# Altium footprint library UWRT_Footprint_Library_2020.PcbLib: 80 footprints (part 1 of 5)
Each footprint in its own frame and in the unit in brackets; x right, y up, seen from the top. Pads: shape width x height; smd on the part's side, far side on the other; paste and mask are expansions set on the pad; w line width, h text height; cw(c..) or ccw(c..) is an arc to the next point about the centre after c.
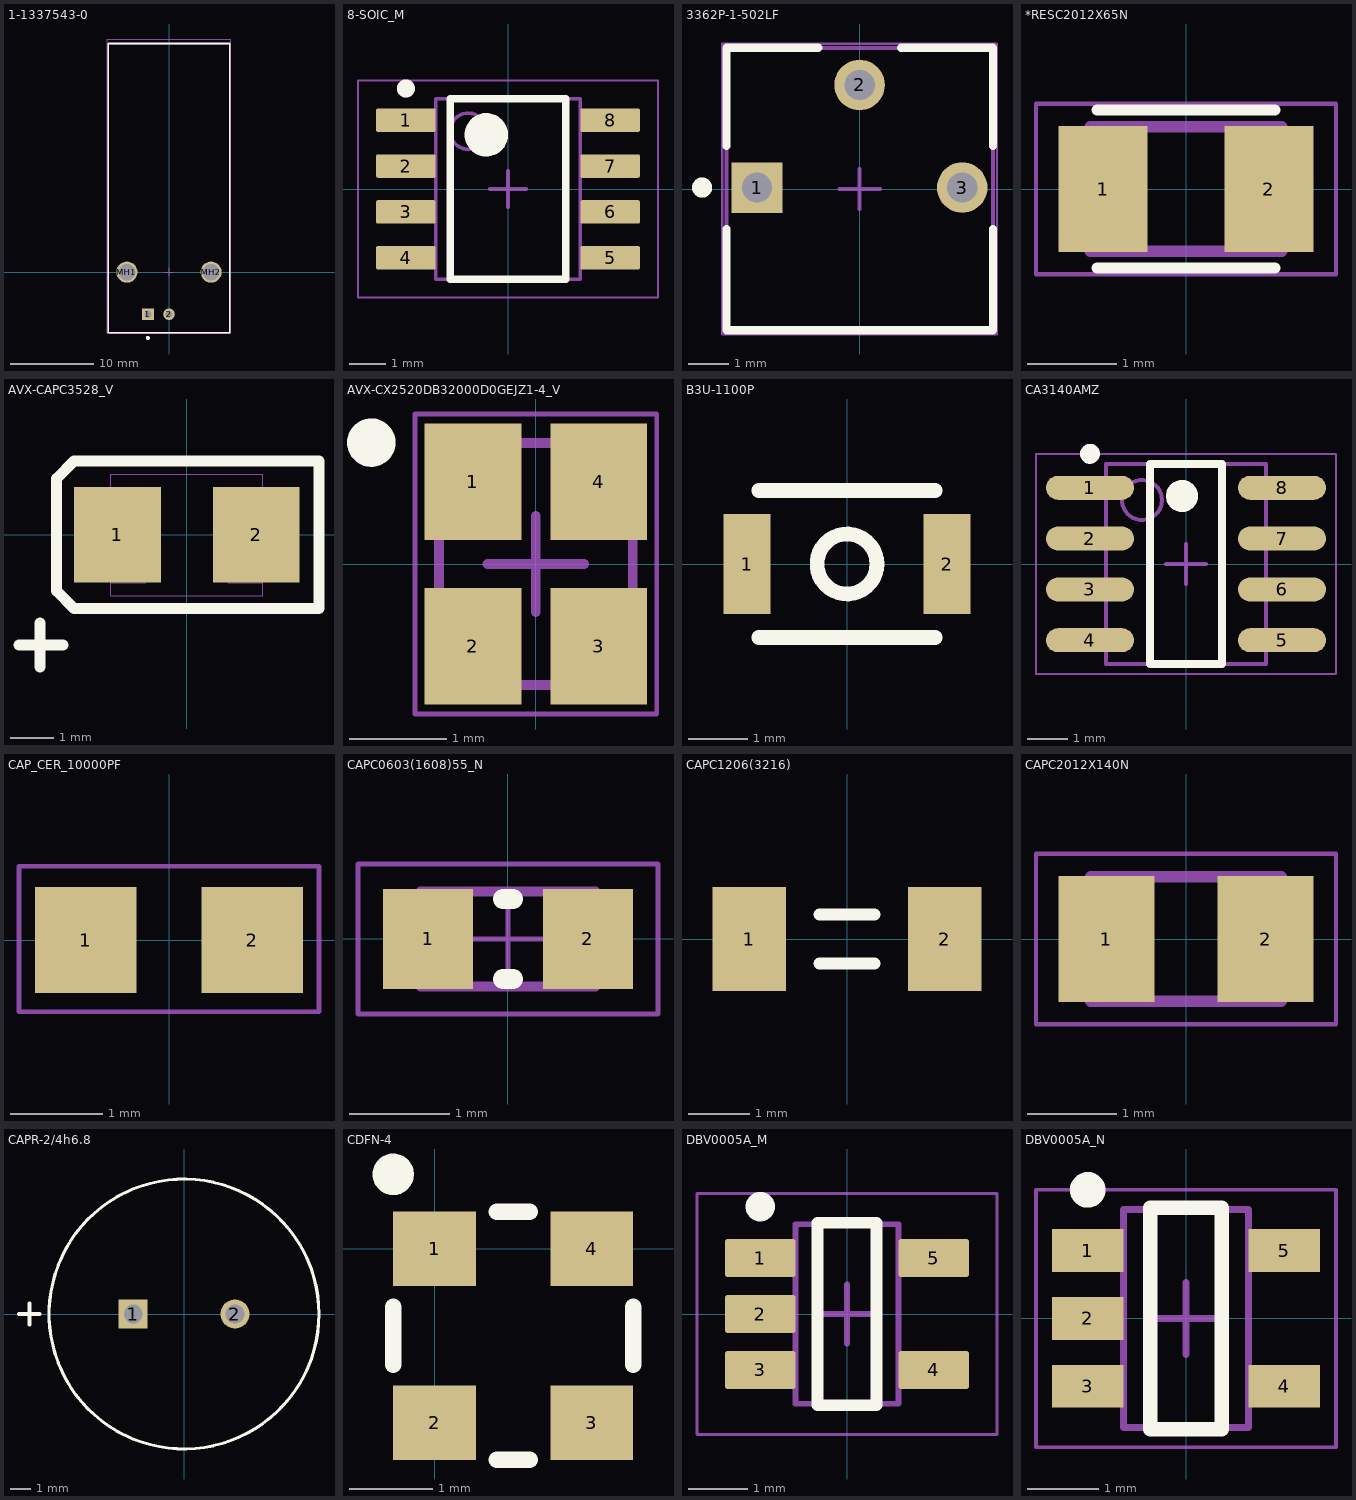
[diagram p0: the footprints below, top view; thin cyan lines are the x and y axes]

## 1-1337543-0 [mm]
pads (4):
  rect 1.4x1.4 hole 0.89: 1(-2.54,-5.08)
  round 1.4 hole 0.89: 2(0,-5.08)
  round 2.55 hole 2.01: MH1(-5.08,0) MH2(5.08,0)
Top Overlay:
  circle w0.25: c-2.54,-7.95 r0.125
  lines w0.2: -7.35,-7.3 7.35,-7.3 7.35,27.6 -7.35,27.6 -7.35,-7.3
Mechanical 1:
  text "OPA313IDBVR" at 7.05,21.6 h1.52
Mechanical 13:
  lines w0.1: -7.35,-7.3 -7.35,27.6 7.35,27.6 7.35,-7.3 -7.35,-7.3
Mechanical 15:
  lines w0.05: -7.45,-7.4 -7.45,28.15 7.45,28.15 7.45,-7.4 -7.45,-7.4
  lines w0.1: -0.5,0 0.5,0 ; 0,-0.5 0,0.5
3D body "c-1-1337543-0-e-3d.stp": height 15.8, standoff -4.3, extent -7.35,-7.1 7.35,28.05

## 8-SOIC_M [mm] "SOIC, 8-Leads, Body 5x4mm, Pitch 1.27mm, IPC Low Density"
height 1.75
pads (8):
  rrect15% 1.65x0.65 smd: 1(-2.825,1.905) 2(-2.825,0.635) 3(-2.825,-0.635) 4(-2.825,-1.905) 5(2.825,-1.905) 6(2.825,-0.635) 7(2.825,0.635) 8(2.825,1.905)
Top Overlay:
  circle w0.6: c-0.6,1.5 r0.3
  circle w0.25: c-2.825,2.78 r0.125
  lines w0.2: -1.6,-2.5 1.6,-2.5 1.6,2.5 -1.6,2.5 -1.6,-2.5
Mechanical 1:
  text ".Designator" at -1.397,-0.254 h0.6
Mechanical 13:
  circle w0.1: c-1.1,1.6 r0.5
  lines w0.1: -2,-2.5 2,-2.5 2,2.5 -2,2.5 -2,-2.5
Mechanical 15:
  lines w0.05: -4.15,-3 4.15,-3 4.15,3 -4.15,3 -4.15,-3
  lines w0.1: -0.5,0 0.5,0 ; 0,-0.5 0,0.5
3D body "SOIC-8akaD0008AakaM08A.stp": height 1.63, standoff 0, extent -3,-2.45 3,2.45

## 3362P-1-502LF [mm]
pads (3):
  rect 1.25x1.25 hole 0.75: 1(-2.54,0.035)
  round 1.25 hole 0.75: 2(0,2.575) 3(2.54,0.035)
Top Overlay:
  circle w0.25: c-3.9,0.035 r0.125
  lines w0.2: -3.3,-0.99 -3.3,-3.495 3.3,-3.495 3.3,-0.99 ; -3.3,1.06 -3.3,3.495 -1.025,3.495 ; 1.025,3.495 3.3,3.495 3.3,1.06
Mechanical 13:
  lines w0.1: -3.3,-3.495 -3.3,3.495 3.3,3.495 3.3,-3.495 -3.3,-3.495
Mechanical 15:
  lines w0.05: -3.4,-3.595 3.4,-3.595 3.4,3.595 -3.4,3.595 -3.4,-3.595
  lines w0.1: -0.5,0 0.5,0 ; 0,-0.5 0,0.5
3D body: height 4.95, standoff 0, extent -3.299,-3.494 3.299,3.494

## *RESC2012X65N [mm]
pads (2):
  rect 1x1.42 smd: 1(-0.935,0) 2(0.935,0)
Top Overlay:
  lines w0.127: -1,-0.89 1,-0.89 ; -1,0.89 1,0.89
Mechanical 4:
  lines w0.127: -1.08,-0.7 -1.08,0.7 ; -1.08,-0.7 1.08,-0.7 ; -1.08,-0.7 -1.08,0.7 ; -1.08,-0.7 1.08,-0.7 ; -1.08,0.7 1.08,0.7 ; -1.08,0.7 1.08,0.7 ; 1.08,-0.7 1.08,0.7 ; 1.08,-0.7 1.08,0.7
Mechanical 15:
  lines w0.05: -1.69,-0.96 1.69,-0.96 1.69,0.96 -1.69,0.96 -1.69,-0.96
3D body "1-1614959-4--3DModel-STEP-56544.STEP": height 0.6, standoff 0, extent -1,-0.625 1,0.625

## AVX-CAPC3528_V [mm] "SMT Capacitor, 2 Leads, Body 3.5x2.8mm"
pads (2):
  rect 2x2.2 smd: 1(-1.6,0) 2(1.6,0)
Top Overlay:
  lines w0.254: -3.87,-2.54 -2.854,-2.54 ; -3.381,-3.048 -3.381,-2.032 ; -3,-1.3 -2.6,-1.7 3.05,-1.7 3.05,1.7 -2.6,1.7 -3,1.3 -3,-1.3
Mechanical 7:
  lines w0.025: -1.748,-1.404 1.752,-1.404 1.752,1.396 -1.748,1.396 ; -1.748,-1.104 -0.948,-1.104 -0.948,1.096 -1.748,1.096 ; -1.748,-1.404 -1.748,1.396 ; 1.752,-1.104 0.952,-1.104 0.952,1.096 1.752,1.096
  text ".Designator" at -1.8,1.8 h0.5
  text ".Comment" at -1.7,-2.2 h0.5
3D body: height 0.3, standoff 0, extent -1.793,-0.665 -1.568,0.824
3D body: height 0.3, standoff 0, extent 1.578,-0.658 1.803,0.768
3D body: height 1.9, standoff 0, extent -1.704,-1.539 1.763,1.537

## AVX-CX2520DB32000D0GEJZ1-4_V [mm] "Hand Drawn, 4-Leads,Body 2.5x2mm"
height 0.55
pads (4):
  rect 1x1.2 smd: 1(-0.65,0.85) 2(-0.65,-0.85) 3(0.65,-0.85) 4(0.65,0.85)
Top Overlay:
  circle w0.25: c-1.7,1.254 r0.125
Mechanical 13:
  lines w0.1: -1,-1.25 -1,1.25 1,1.25 1,-1.25 -1,-1.25
Mechanical 15:
  lines w0.05: -1.25,-1.55 -1.25,1.55 1.25,1.55 1.25,-1.55 -1.25,-1.55
  lines w0.1: -0.5,0 0.5,0 ; 0,-0.5 0,0.5
3D body: height 0.55, standoff 0, extent -1,-1.25 1,1.25

## B3U-1100P [mm] "TACTILE SWITCH GREY"
pads (2):
  rect 0.8x1.7 smd: 1(-1.7,0) 2(1.7,0)
Top Overlay:
  circle w0.25: c0,0 r0.51
  lines w0.254: -1.5,-1.25 1.5,-1.25 ; -1.5,1.25 1.5,1.25
3D body "b3u-1000p.stp": height 1.6, standoff 0, extent -2,-1.25 2,1.25

## CA3140AMZ [mm]
pads (8):
  oval 2.2x0.6 smd: 1(-2.4,1.905) 2(-2.4,0.635) 3(-2.4,-0.635) 4(-2.4,-1.905) 5(2.4,-1.905) 6(2.4,-0.635) 7(2.4,0.635) 8(2.4,1.905)
Top Overlay:
  circle w0.4: c-0.1,1.7 r0.2
  circle w0.25: c-2.4,2.755 r0.125
  lines w0.2: -0.9,-2.5 0.9,-2.5 0.9,2.5 -0.9,2.5 -0.9,-2.5
Mechanical 13:
  circle w0.1: c-1.1,1.6 r0.5
  lines w0.1: -2,-2.5 2,-2.5 2,2.5 -2,2.5 -2,-2.5
Mechanical 15:
  lines w0.05: -3.75,-2.75 3.75,-2.75 3.75,2.75 -3.75,2.75 -3.75,-2.75
  lines w0.1: -0.5,0 0.5,0 ; 0,-0.5 0,0.5
3D body: height 1.75, standoff 0.1, extent -2,-2.5 2,2.5

## CAP_CER_10000PF [mm] "CAP CER 10000PF 200V X7R 0603"
pads (2):
  rect 1.1x1.15 smd: 1(-0.9,0) 2(0.9,0)
Mechanical 15:
  lines w0.05: -1.625,-0.775 -1.625,0.8 1.625,0.8 1.625,-0.775 -1.625,-0.775
3D body "C0603C103K2RECTU.step": height 0.96, standoff 0.01, extent -0.9,-0.445 0.85,0.425

## CAPC0603(1608)55_N [mm] "Chip Capacitor, Body 1.6x0.8mm, Height 0.55mm, IPC Medium Density"
height 0.55
pads (2):
  rect 0.9x1 smd: 1(-0.8,0) 2(0.8,0)
Top Overlay:
  lines w0.2: -0.05,-0.4 0.05,-0.4 ; -0.05,0.4 0.05,0.4
Mechanical 13:
  lines w0.1: -0.875,-0.475 0.875,-0.475 0.875,0.475 -0.875,0.475 -0.875,-0.475
Mechanical 15:
  lines w0.05: -0.475,0 0.475,0 ; 0,-0.475 0,0.475 ; -1.5,-0.75 1.5,-0.75 1.5,0.75 -1.5,0.75 -1.5,-0.75
3D body: height 0.55, standoff 0, extent 0.525,-0.475 0.875,0.475
3D body: height 0.55, standoff 0, extent -0.875,-0.475 -0.525,0.475
3D body: height 0.55, standoff 0, extent -0.525,-0.475 0.525,0.475

## CAPC1206(3216) [mm] "Chip Capacitor, Body 3.2x1.6mm, Height 0.55mm, IPC Medium Density"
height 0.55
pads (2):
  rect 1.2x1.7 smd: 1(-1.6,0) 2(1.6,0)
Top Overlay:
  lines w0.2: -0.45,-0.4 0.45,-0.4 ; -0.45,0.4 0.45,0.4
3D body "model.step": height 1.75, standoff 0.01, extent -1.6,-0.85 1.6,0.85

## CAPC2012X140N [mm]
pads (2):
  rect 1.08x1.42 smd: 1(-0.895,0) 2(0.895,0)
Mechanical 4:
  lines w0.127: -1.07,-0.7 1.07,-0.7 ; -1.07,-0.7 -1.07,0.7 ; -1.07,-0.7 1.07,-0.7 ; -1.07,-0.7 -1.07,0.7 ; -1.07,0.7 1.07,0.7 ; -1.07,0.7 1.07,0.7 ; 1.07,-0.7 1.07,0.7 ; 1.07,-0.7 1.07,0.7
Mechanical 15:
  lines w0.05: -1.685,-0.96 1.685,-0.96 1.685,0.96 -1.685,0.96 -1.685,-0.96
3D body "GGD21BR72A273KA02L--3DModel-STEP-1.STEP": height 1.4, standoff 0, extent -1,-0.625 1,0.625

## CAPR-2/4h6.8 [mil] "ECA-1VM102B"
pads (2):
  rect 56x56 hole 36: 1(-98.5,0)
  round 56 hole 36: 2(98.5,0)
Top Overlay:
  circle w6: c0,0 r261
  lines w7.87: -319.14,0 -279.14,0 ; -299.14,-20 -299.14,20

## CDFN-4 [mm]
pads (4):
  rect 1x0.9 smd: 1(0,0) 2(0,-2.1) 3(1.9,-2.1) 4(1.9,0)
Top Overlay:
  circle w0.25: c-0.5,0.9 r0.125
  lines w0.2: -0.5,-1.4 -0.5,-0.7 ; 0.75,-2.55 1.15,-2.55 ; 0.75,0.45 1.15,0.45 ; 2.4,-1.4 2.4,-0.7

## DBV0005A_M [mm] "SOT23, 5-Leads, Body 3.05x1.75mm, Pitch 0.95mm, IPC Low Density"
height 1.45
pads (5):
  rrect15% 1.2x0.65 smd: 1(-1.475,0.95) 2(-1.475,0) 3(-1.475,-0.95) 4(1.475,-0.95) 5(1.475,0.95)
Top Overlay:
  circle w0.25: c-1.475,1.825 r0.125
  lines w0.2: -0.5,-1.55 0.5,-1.55 0.5,1.55 -0.5,1.55 -0.5,-1.55
Mechanical 1:
  text ".Designator" at -0.15,2.25 h0.4
Mechanical 13:
  lines w0.1: -0.875,-1.525 -0.875,1.525 0.875,1.525 0.875,-1.525 -0.875,-1.525
Mechanical 15:
  lines w0.05: -2.55,-2.05 -2.55,2.05 2.55,2.05 2.55,-2.05 -2.55,-2.05
  lines w0.1: -0.5,0 0.5,0 ; 0,-0.5 0,0.5
3D body "DBV0005AaksMF05A.stp": height 1.08, standoff -0.01, extent -1.422,-1.461 1.422,1.46

## DBV0005A_N [mm] "SOT23, 5-Leads, Body 3.05x1.75mm, Pitch 0.95mm, IPC Medium Density"
height 1.45
pads (5):
  rect 1x0.6 smd: 1(-1.375,0.95) 2(-1.375,0) 3(-1.375,-0.95) 4(1.375,-0.95) 5(1.375,0.95)
Top Overlay:
  circle w0.25: c-1.375,1.8 r0.125
  lines w0.2: -0.5,-1.55 0.5,-1.55 0.5,1.55 -0.5,1.55 -0.5,-1.55
Mechanical 13:
  lines w0.1: -0.875,-1.525 -0.875,1.525 0.875,1.525 0.875,-1.525 -0.875,-1.525
Mechanical 15:
  lines w0.05: -2.1,-1.8 -2.1,1.8 2.1,1.8 2.1,-1.8 -2.1,-1.8
  lines w0.1: -0.5,0 0.5,0 ; 0,-0.5 0,0.5
3D body "DBV0005AaksMF05A.stp": height 1.08, standoff -0.01, extent -1.422,-1.461 1.422,1.46